# Altium footprint library SOIL MS SOCKET.PcbLib: 1 footprints
Each footprint in its own frame and in the unit in brackets; x right, y up, seen from the top. Pads: shape width x height; smd on the part's side, far side on the other; paste and mask are expansions set on the pad; w line width, h text height; cw(c..) or ccw(c..) is an arc to the next point about the centre after c.
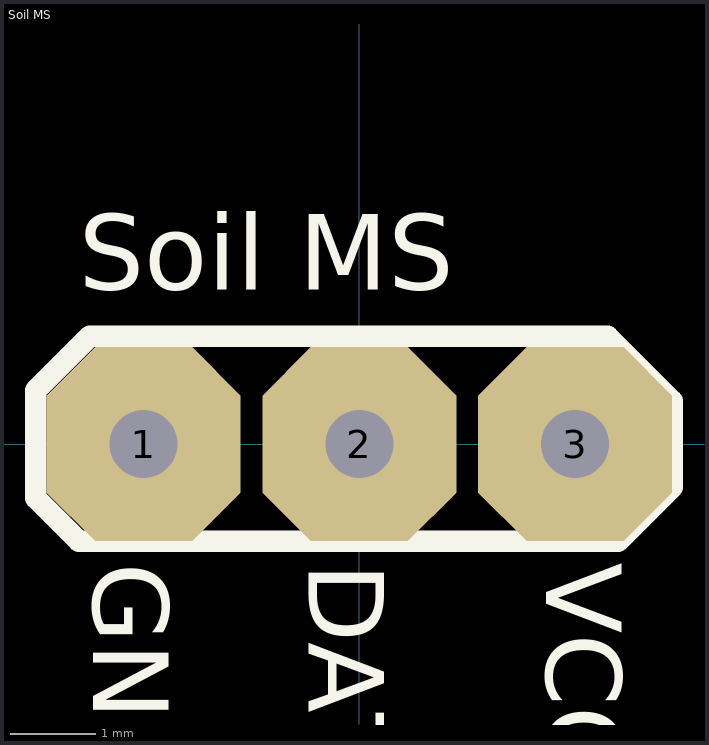
[diagram p0: the footprint, top view; thin cyan lines are the x and y axes]

## Soil MS [mil]
pads (3):
  oct 90x90 hole 31.5: 1(-100,0) 2(0,0) 3(100,0)
Top Overlay:
  lines w10: -150,-25 -130,-45 120,-45 145,-20 145,20 115,50 -125,50 -150,25 -150,-25
  text "Soil MS" at -130,60 h60
  text "VCC" at 75,-55 h60
  text "DATA" at -35,-55 h60
  text "GND" at -135,-55 h60